# EAGLE library part ATMEGA32U4-MU (library ATMEGA32U4-MU)
8-bit Microcontrollers - MCU AVR USB 32K FLASH INDUSTRIA Check availability <https://pricing.snapeda.com/parts/ATMEGA32U4-MU/Microchip/view-part?ref=eda>
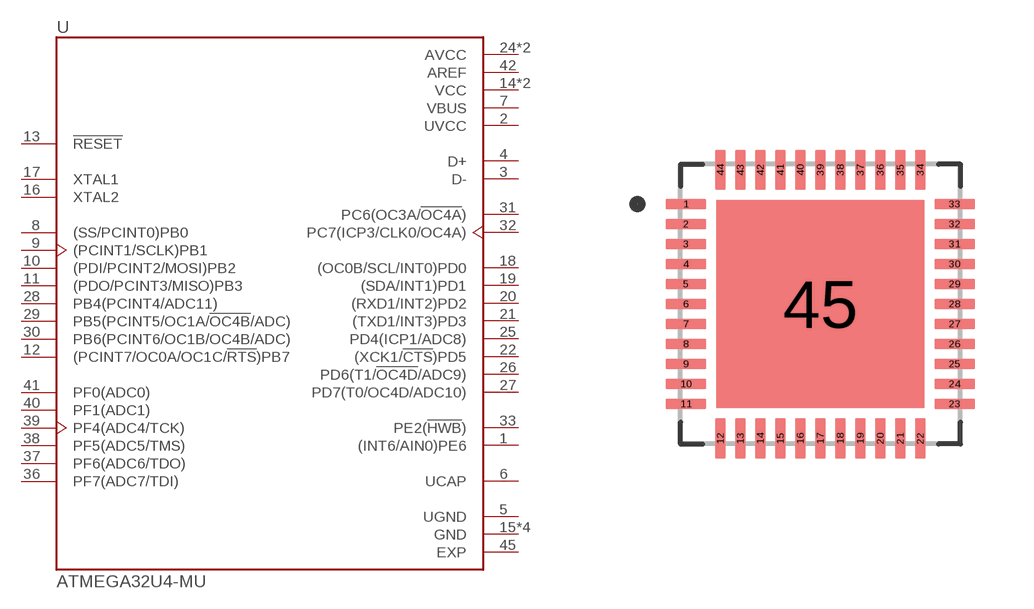
[diagram p0: symbol with the pads of QFN50P700X700X100-45N; footprint QFN50P700X700X100-45N]

Designator prefix U

## ATMEGA32U4-MU (AVAILABILITY: In Stock; CHECK_PRICES: https://www.snapeda.com/parts/ATMEGA32U4-MU/Microchip/view-part/?ref=eda; DESCRIPTION: IC, 8-BIT MCU, ASSP AVR, 16MHZ, 44-VQFN; Controller Family/Series:AVR MEGA; Core Size:8bit; No. of I/O's:26; Supply Voltage Range:2.7V to 5.5V; Digital IC Case Style:VQFN; No. of Pins:44; Program Memory Size:32 KB ;RoHS Compliant: Yes; MF: Microchip; MP: ATMEGA32U4-MU; PACKAGE: VQFN-44 Atmel; PRICE: None; PURCHASE-URL: https://www.snapeda.com/api/url_track_click_mouser/?unipart_id=13823&manufacturer=Microchip&part_name=ATMEGA32U4-MU&search_term=atmega32u4; SNAPEDA_LINK: https://www.snapeda.com/parts/ATMEGA32U4-MU/Microchip/view-part/?ref=snap)  [QFN50P700X700X100-45N]
1  (INT6/AIN0)PE6
2  UVCC  pwr
3  D-
4  D+
5  UGND  pwr
6  UCAP  pas
7  VBUS  pwr
8  (SS/PCINT0)PB0
9  (PCINT1/SCLK)PB1
10  (PDI/PCINT2/MOSI)PB2
11  (PDO/PCINT3/MISO)PB3
12  (PCINT7/OC0A/OC1C/!RTS!)PB7
13  !RESET!  in
14  VCC  pwr
15  GND  pwr
16  XTAL2  out
17  XTAL1  in
18  (OC0B/SCL/INT0)PD0
19  (SDA/INT1)PD1
20  (RXD1/INT2)PD2
21  (TXD1/INT3)PD3
22  (XCK1/!CTS!)PD5
23  GND  pwr
24  AVCC  pwr
25  PD4(ICP1/ADC8)
26  PD6(T1/!OC4D!/ADC9)
27  PD7(T0/OC4D/ADC10)
28  PB4(PCINT4/ADC11)
29  PB5(PCINT5/OC1A/!OC4B!/ADC)
30  PB6(PCINT6/OC1B/OC4B/ADC)
31  PC6(OC3A/!OC4A!)
32  PC7(ICP3/CLK0/OC4A)
33  PE2(!HWB!)
34  VCC  pwr
35  GND  pwr
36  PF7(ADC7/TDI)
37  PF6(ADC6/TDO)
38  PF5(ADC5/TMS)
39  PF4(ADC4/TCK)
40  PF1(ADC1)
41  PF0(ADC0)
42  AREF  pwr
43  GND  pwr
44  AVCC  pwr
45  EXP  pas

## Footprint QFN50P700X700X100-45N (pad centres in mm)
smd 1.01 x 0.26: 1 -3.36,2.5; 2 -3.36,2; 3 -3.36,1.5; 4 -3.36,1; 5 -3.36,0.5; 6 -3.36,0; 7 -3.36,-0.5; 8 -3.36,-1; 9 -3.36,-1.5; 10 -3.36,-2; 11 -3.36,-2.5; 23 3.36,-2.5; 24 3.36,-2; 25 3.36,-1.5; 26 3.36,-1; 27 3.36,-0.5; 28 3.36,0; 29 3.36,0.5; 30 3.36,1; 31 3.36,1.5; 32 3.36,2; 33 3.36,2.5
smd 0.26 x 1.01: 12 -2.5,-3.36; 13 -2,-3.36; 14 -1.5,-3.36; 15 -1,-3.36; 16 -0.5,-3.36; 17 0,-3.36; 18 0.5,-3.36; 19 1,-3.36; 20 1.5,-3.36; 21 2,-3.36; 22 2.5,-3.36; 34 2.5,3.36; 35 2,3.36; 36 1.5,3.36; 37 1,3.36; 38 0.5,3.36; 39 0,3.36; 40 -0.5,3.36; 41 -1,3.36; 42 -1.5,3.36; 43 -2,3.36; 44 -2.5,3.36
smd 5.2 x 5.2: 45 0,0